# EAGLE library part UG-2864HMBEG01 (library mbed-HDK-Optical)
OLED 128x64 display 0.96inch UG-2864HSWEG01
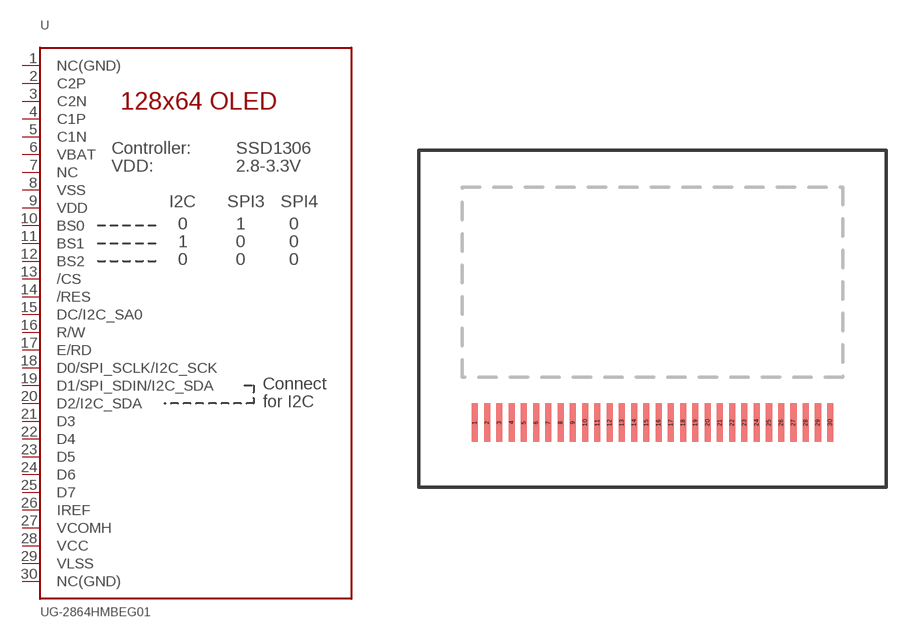
[diagram p3: symbol with the pads of UG-2864HSWEG01_0.96IN_WRAPAROUND; footprint UG-2864HSWEG01_0.96IN_WRAPAROUND]

Designator prefix U

## UG-2864HMBEG01 (MF: WiseChip; MFN: UG-2864HMBEG01; OC-FUTURE: UG-2864HMBEG01; OC-OTHER: https://www.aliexpress.com/item/1pcs-0-96-inch-OLED-Display-LCD-module-with-128x64-Resolution-Blue-and-Yellow-color-on/1436111338.html?spm=2114.search0104.3.106.5N4Miv&ws_ab_test=searchweb0_0,searchweb201602_2_10152_10065_10151_10344_10068_10130_10345_10324_10342_10547_10325_10343_51102_10340_10341_10548_10609_10192_10541_5130013_5000013_10190_10084_10083_10307_10301_5080013_10303_10610_5870020_10312_10059_10313_10314_10184_10534_100031_10604_10603_10103_10605_5060013_10594_10142_10107,searchweb201603_2,ppcSwitch_5&algo_expid=f76b08ed-b75e-4e2b-aa35-328708cbae68-16&algo_pvid=f76b08ed-b75e-4e2b-aa35-328708cbae68&rmStoreLevelAB=5)  [UG-2864HSWEG01_0.96IN_WRAPAROUND]
1  NC(GND)  in
2  C2P  in
3  C2N  in
4  C1P  in
5  C1N  in
6  VBAT  in
7  NC  nc
8  VSS  pwr
9  VDD  pwr
10  BS0  in
11  BS1  in
12  BS2  in
13  /CS  in
14  /RES  in
15  DC/I2C_SA0  in
16  R/W  in
17  E/RD  in
18  D0/SPI_SCLK/I2C_SCK
19  D1/SPI_SDIN/I2C_SDA
20  D2/I2C_SDA
21  D3
22  D4
23  D5
24  D6
25  D7
26  IREF  in
27  VCOMH  out
28  VCC  pwr
29  VLSS  pwr
30  NC(GND)  in

## Footprint UG-2864HSWEG01_0.96IN_WRAPAROUND (pad centres in mm)
smd 0.35 x 2.2: 1 -10.15,-1.2; 2 -9.45,-1.2; 3 -8.75,-1.2; 4 -8.05,-1.2; 5 -7.35,-1.2; 6 -6.65,-1.2; 7 -5.95,-1.2; 8 -5.25,-1.2; 9 -4.55,-1.2; 10 -3.85,-1.2; 11 -3.15,-1.2; 12 -2.45,-1.2; 13 -1.75,-1.2; 14 -1.05,-1.2; 15 -0.35,-1.2; 16 0.35,-1.2; 17 1.05,-1.2; 18 1.75,-1.2; 19 2.45,-1.2; 20 3.15,-1.2; 21 3.85,-1.2; 22 4.55,-1.2; 23 5.25,-1.2; 24 5.95,-1.2; 25 6.65,-1.2; 26 7.35,-1.2; 27 8.05,-1.2; 28 8.75,-1.2; 29 9.45,-1.2; 30 10.15,-1.2